# EAGLE library part GYSFDMAXB (library taki-library)
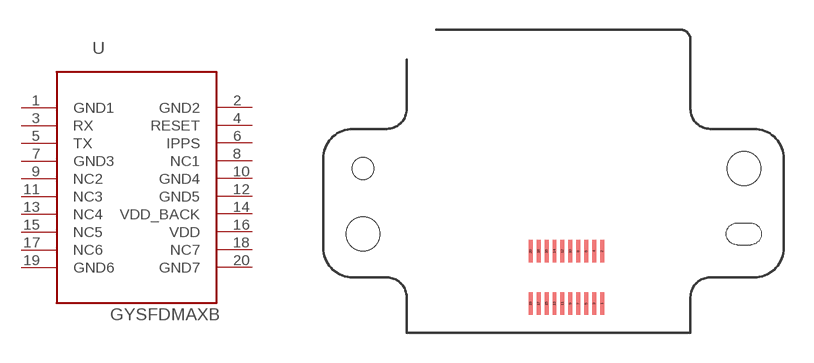
[diagram p18: symbol with the pads of GYSFDMAXB; footprint GYSFDMAXB]

Designator prefix U

## GYSFDMAXB  [GYSFDMAXB]
1  GND1
2  GND2
3  RX
4  RESET
5  TX
6  IPPS
7  GND3
8  NC1
9  NC2
10  GND4
11  NC3
12  GND5
13  NC4
14  VDD_BACK
15  NC5
16  VDD
17  NC6
18  NC7
19  GND6
20  GND7

## Footprint GYSFDMAXB (pad centres in mm)
smd 0.2 x 1.14: 1 12.05,-6.82; 2 12.05,-4.18; 3 11.65,-6.82; 4 11.65,-4.18; 5 11.25,-6.82; 6 11.25,-4.18; 7 10.85,-6.82; 8 10.85,-4.18; 9 10.45,-6.82; 10 10.45,-4.18; 11 10.05,-6.82; 12 10.05,-4.18; 13 9.65,-6.82; 14 9.65,-4.18; 15 9.25,-6.82; 16 9.25,-4.18; 17 8.85,-6.82; 18 8.85,-4.18; 19 8.45,-6.82; 20 8.45,-4.18
hole 1.1 at 0,0
hole 1.7 at 0,-3.3
hole 1.7 at 19.2,0